# Altium schematic symbol library DF11-14DP-2DS(24).SCHLIB: 1 symbol
Pins are listed as number, name and electrical type; pins without a type are passive.

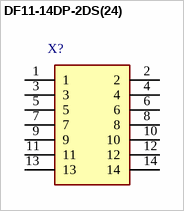
[diagram p0: symbol DF11-14DP-2DS(24)]

## DF11-14DP-2DS(24)
designator X?
pins: 1, 2, 3, 4, 5, 6, 7, 8, 9, 10, 11, 12, 13, 14